# EAGLE library part PTN78060 (library greg-IC)
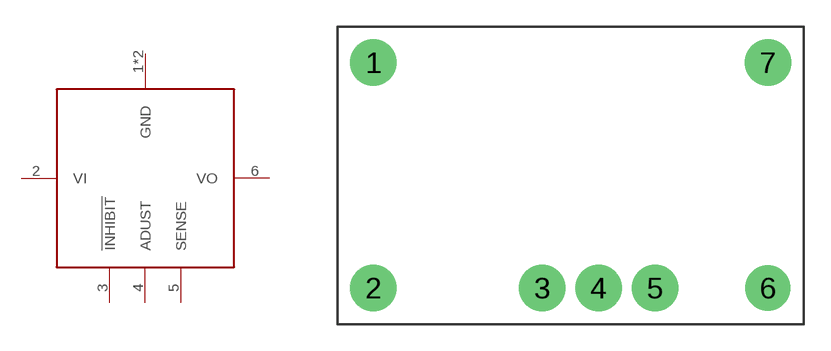
[diagram p17: symbol with the pads of TI-EUW; footprint TI-EUW]

Designator prefix -

## PTN78060WAD  [TI-EUW]
1  GND
2  VI
3  !INHIBIT!
4  ADUST
5  SENSE
6  VO
7  GND

## Footprint TI-EUW (pad centres in mm)
drill 1.75: 1 -11.12,6.35; 2 -11.12,-6.35; 3 -1.6,-6.35; 4 1.58,-6.35; 5 4.76,-6.35; 7 11.12,6.35
drill 1.7: 6 11.12,-6.35